# EAGLE library part SIM800C-HAM (library SIM800C-HAM_v1)
SIM800C-HAM MODULE ONBOARD FOR ARDUINO
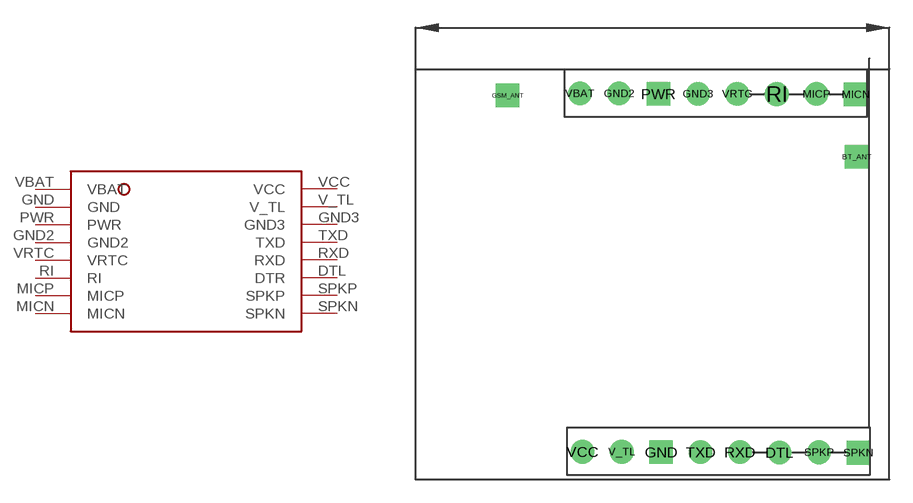
[diagram p0: symbol with the pads of GPS-NEO6MHAMLAD; footprint GPS-NEO6MHAMLAD]

Designator prefix -

## SIM800C-HAM (SIM800C: SIM800C-HAM)  [GPS-NEO6MHAMLAD]
DTL  DTR
GND  GND
GND2  GND2
GND3  GND3
MICN  MICN
MICP  MICP
PWR  PWR
RI  RI
RXD  RXD
SPKN  SPKN
SPKP  SPKP
TXD  TXD
V_TL  V_TL
VBAT  VBAT
VCC  VCC
VRTC  VRTC

## Footprint GPS-NEO6MHAMLAD (pad centres in mm)
SIM800C-HAMLAD
drill 1.025 square: BT_ANT -48.145,-2.215; GND -60.875,-21.425; GSM_ANT -70.845,1.785; MICN -48.215,1.845; PWR -61.045,1.885; SPKN -48.045,-21.465
drill 1.025: DTL -53.175,-21.445; GND2 -63.595,1.91; GND3 -58.47,1.885; MICP -50.775,1.875; RI -53.345,1.865; RXD -55.745,-21.425; SPKP -50.605,-21.435; TXD -58.3,-21.425; V_TL -63.425,-21.4; VBAT -66.145,1.91; VCC -65.975,-21.4; VRTC -55.915,1.885